# Altium schematic symbol library SCH - CONNECTORS - WE 693071010811.Schlib: 1 symbol
Pins are listed as number, name and electrical type; pins without a type are passive.

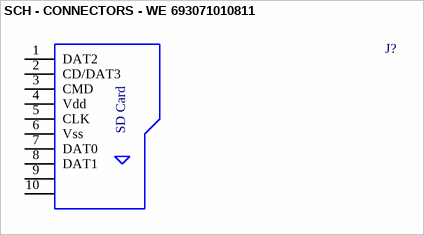
[diagram p0: symbol SCH - CONNECTORS - WE 693071010811]

## SCH - CONNECTORS - WE 693071010811
designator J?
footprint 693071010811 (WR-CRD Micro SD_Push and Push_Card Detection_8 pins)
pins: 1 DAT2, 2 CD/DAT3, 3 CMD, 4 Vdd, 5 CLK, 6 Vss, 7 DAT0, 8 DAT1, 9, 10
text: SD Card